# Altium footprint library Smirnov.PcbLib: 63 footprints (part 4 of 4)
Each footprint in its own frame and in the unit in brackets; x right, y up, seen from the top. Pads: shape width x height; smd on the part's side, far side on the other; paste and mask are expansions set on the pad; w line width, h text height; cw(c..) or ccw(c..) is an arc to the next point about the centre after c.
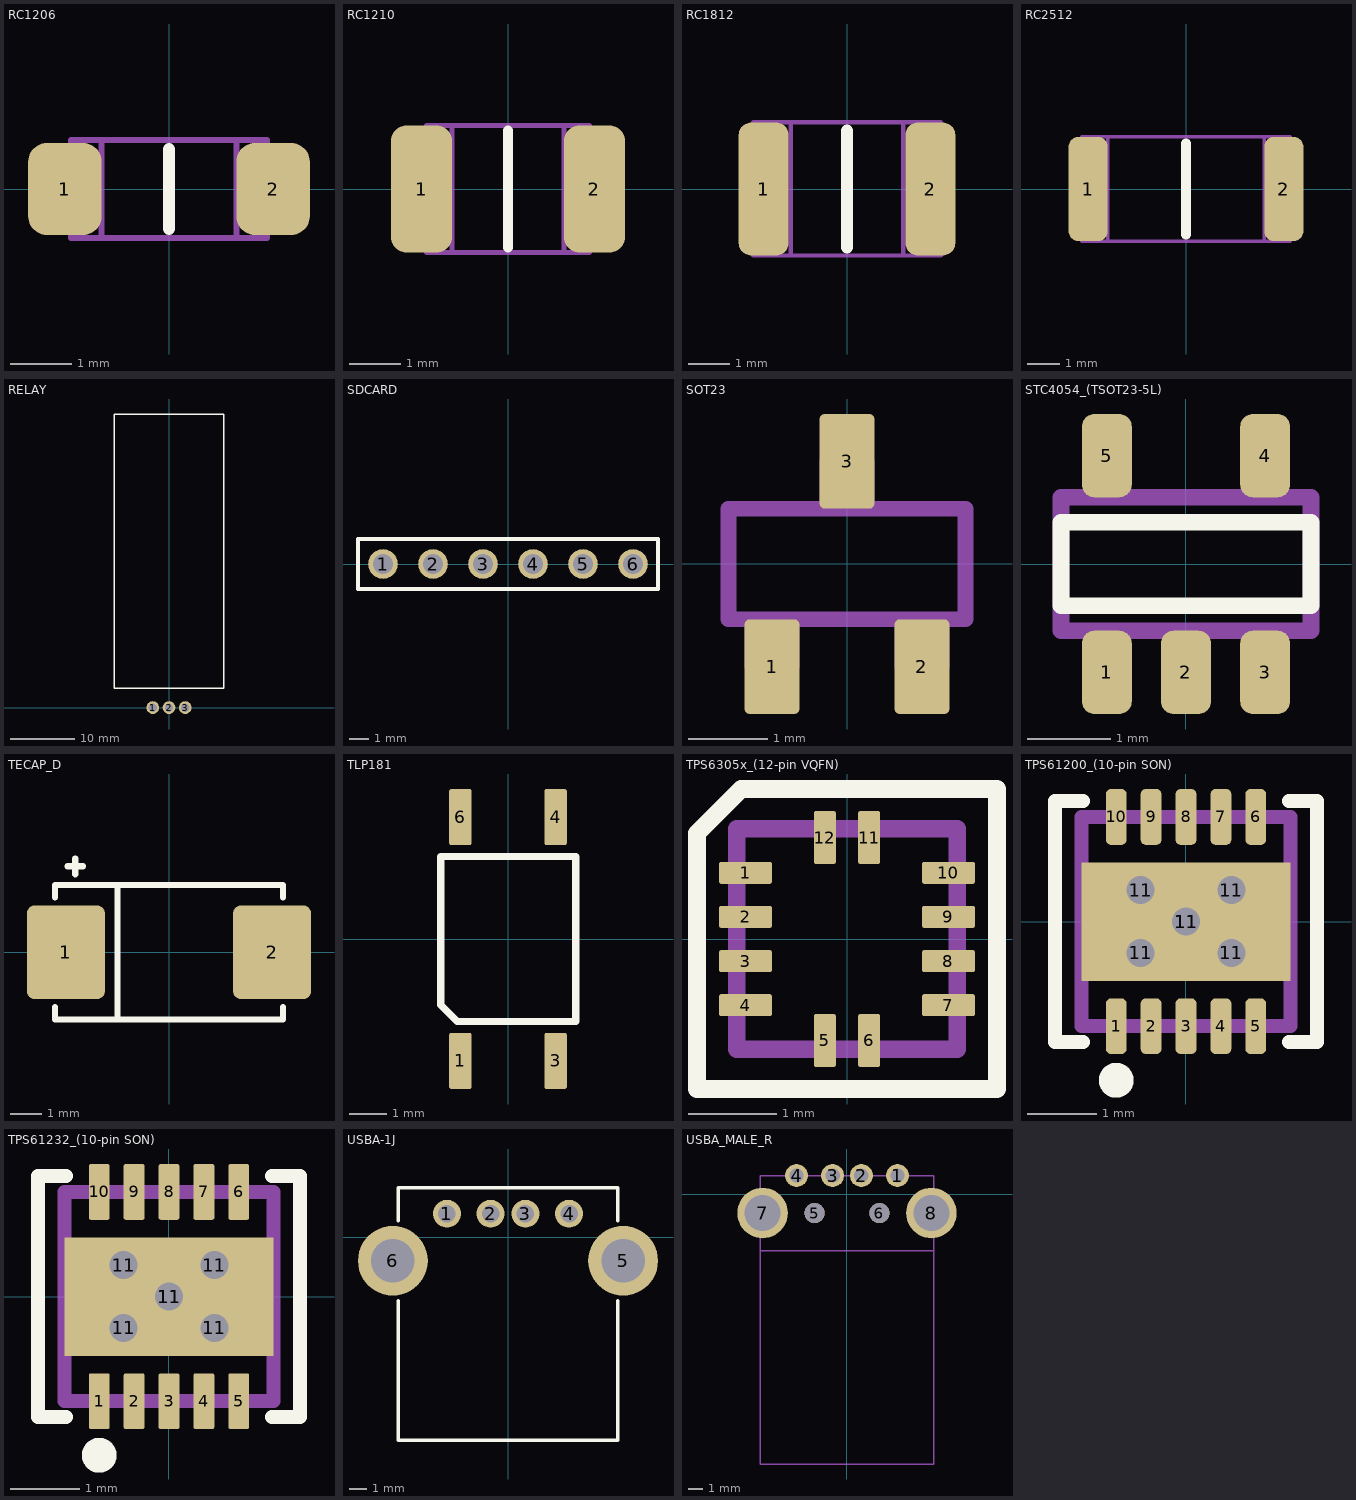
[diagram p3: the footprints below, top view; thin cyan lines are the x and y axes]

## RC1206 [mm]
pads (2):
  rrect50% 1.2x1.5 smd: 1(-1.7,0) 2(1.7,0)
Top Overlay:
  lines w0.2: 0,-0.65 0,0.65
Mechanical 15:
  lines w0.1: -1.1,-0.8 -1.1,0.8 ; 1.1,-0.8 1.1,0.8 ; -1.6,-0.8 1.6,-0.8 1.6,0.8 -1.6,0.8 -1.6,-0.8

## RC1210 [mm]
pads (2):
  rrect50% 1.2x2.5 smd: 1(-1.7,0) 2(1.7,0)
Top Overlay:
  lines w0.2: 0,-1.15 0,1.15
Mechanical 15:
  lines w0.1: -1.1,-1.25 -1.1,1.25 ; 1.1,-1.25 1.1,1.25 ; -1.6,-1.25 -1.6,1.25 1.6,1.25 1.6,-1.25 -1.6,-1.25

## RC1812 [mm]
pads (2):
  rrect50% 1.2x3.2 smd: 1(-2,0) 2(2,0)
Top Overlay:
  lines w0.3: 0,-1.4 0,1.4
Mechanical 15:
  lines w0.1: -1.35,-1.6 -1.35,1.6 ; 1.35,-1.6 1.35,1.6 ; -2.25,-1.6 -2.25,1.6 2.25,1.6 2.25,-1.6 -2.25,-1.6

## RC2512 [mm]
pads (2):
  rrect50% 1.2x3.2 smd: 1(-3,0) 2(3,0)
Top Overlay:
  lines w0.3: 0,-1.4 0,1.4
Mechanical 15:
  lines w0.1: -2.4,-1.6 -2.4,1.6 ; 2.4,-1.6 2.4,1.6 ; -3.2,-1.6 3.2,-1.6 3.2,1.6 -3.2,1.6 -3.2,-1.6

## RELAY [mm]
pads (3):
  round 2 hole 1.3: 1(-2.54,0) 2(0,0) 3(2.54,0)
Top Overlay:
  lines w0.2: -8.6,3 8.6,3 8.6,46 -8.6,46 -8.6,3
3D body "Рэле 1 канал.stp": height 17.9, standoff 0, extent -8.6,3 8.6,46

## SDCARD [mm]
pads (6):
  round 1.5 hole 1: 1(-6.35,0) 2(-3.81,0) 3(-1.27,0) 4(1.27,0) 5(3.81,0) 6(6.35,0)
Top Overlay:
  lines w0.2: -7.62,-1.27 7.62,-1.27 7.62,1.27 -7.62,1.27 -7.62,-1.27
3D body "022284061.stp": height 10.41, standoff -3.05, extent -7.62,-1.244 7.62,1.245

## SOT23 [mm]
pads (3):
  rrect20% 0.7x1.2 smd: 1(-0.95,-1.3) 2(0.95,-1.3) 3(0,1.3)
Mechanical 13:
  lines w0.2: -1.2,-0.7 -1.2,-1.3 -0.7,-1.3 -0.7,-0.7 ; -0.25,0.7 -0.25,1.3 0.25,1.3 0.25,0.7 ; 0.7,-0.7 0.7,-1.3 1.2,-1.3 1.2,-0.7 ; -1.5,-0.7 1.5,-0.7 1.5,0.7 -1.5,0.7 -1.5,-0.7

## STC4054_(TSOT23-5L) [mm] "TSOT23-5L, 3.0x1.6mm"
height 1.1
pads (5):
  rrect50% 0.6x1 smd mask+0.05: 1(-0.95,-1.3) 2(0,-1.3) 3(0.95,-1.3) 4(0.95,1.3) 5(-0.95,1.3)
Top Overlay:
  lines w0.2: -1.5,-0.5 -1.5,0.5 1.5,0.5 1.5,-0.5 -1.5,-0.5
Mechanical 13:
  lines w0.2: -1.5,-0.8 1.5,-0.8 1.5,0.8 -1.5,0.8 -1.5,-0.8
3D body: height 1.1, standoff 0, extent -1.5,-0.8 1.5,0.8

## TECAP_D [mm]
pads (2):
  rrect20% 2.5x3 smd: 1(-3.3,0) 2(3.3,0)
Top Overlay:
  lines w0.2: -3.65,-1.75 -3.65,-2.15 3.65,-2.15 3.65,-1.75 ; -3.65,1.75 -3.65,2.15 3.65,2.15 3.65,1.75 ; -3.25,2.75 -2.75,2.75 ; -3,2.5 -3,3 ; -1.65,-2.15 -1.65,2.15

## TLP181 [mm]
height 1.1
pads (4):
  rrect20% 0.6x1.5 smd mask+0.05: 1(-1.27,-3.25) 3(1.27,-3.25) 4(1.27,3.25) 6(-1.27,3.25)
Top Overlay:
  lines w0.2: -1.8,-1.75 -1.8,2.2 1.8,2.2 1.8,-2.2 -1.35,-2.2 -1.8,-1.75

## TPS6305x_(12-pin VQFN) [mm]
height 1
pads (12):
  rrect20% 0.6x0.25 smd mask+0.05: 1(-1.15,0.75) 2(-1.15,0.25) 3(-1.15,-0.25) 4(-1.15,-0.75) 7(1.15,-0.75) 8(1.15,-0.25) 9(1.15,0.25) 10(1.15,0.75)
  rrect20% 0.25x0.6 smd mask+0.05: 5(-0.25,-1.15) 6(0.25,-1.15) 11(0.25,1.15) 12(-0.25,1.15)
Top Overlay:
  lines w0.2: -1.7,-1.7 1.7,-1.7 1.7,1.7 -1.2,1.7 -1.7,1.2 -1.7,-1.7
Mechanical 13:
  lines w0.2: -1.25,-1.25 -1.25,1.25 1.25,1.25 1.25,-1.25 -1.25,-1.25
3D body: height 1, standoff 0, extent -1.25,-1.25 1.25,1.25

## TPS61200_(10-pin SON) [mm] "10-pin SON, 3.0x3.0mm"
height 1
pads (16):
  rrect50% 0.3x0.8 smd mask+0.05: 1(-1,-1.5) 2(-0.5,-1.5) 3(0,-1.5) 4(0.5,-1.5) 5(1,-1.5) 6(1,1.5) 7(0.5,1.5) 8(0,1.5) 9(-0.5,1.5) 10(-1,1.5)
  round 0.8 hole 0.4 mask+0.05: 11(-0.65,-0.45) 11(-0.65,0.45) 11(0,0) 11(0.65,-0.45) 11(0.65,0.45)
  rect 3x1.7 smd mask+0.05: 11(0,0)
Top Overlay:
  circle w0.25: c-1,-2.275 r0.125
  lines w0.2: -1.475,-1.725 -1.875,-1.725 -1.875,1.725 -1.475,1.725 ; 1.475,-1.725 1.875,-1.725 1.875,1.725 1.475,1.725
Mechanical 13:
  lines w0.2: -1.5,-1.5 1.5,-1.5 1.5,1.5 -1.5,1.5 -1.5,-1.5
3D body: height 0.8, standoff 0, extent -1.5,-1.5 1.5,1.5

## TPS61232_(10-pin SON) [mm] "10-pin SON, 3.0x3.0mm"
height 1
pads (16):
  rrect20% 0.3x0.8 smd mask+0.05: 1(-1,-1.5) 2(-0.5,-1.5) 3(0,-1.5) 4(0.5,-1.5) 5(1,-1.5) 6(1,1.5) 7(0.5,1.5) 8(0,1.5) 9(-0.5,1.5) 10(-1,1.5)
  round 0.8 hole 0.4 mask+0.05: 11(-0.65,-0.45) 11(-0.65,0.45) 11(0,0) 11(0.65,-0.45) 11(0.65,0.45)
  rect 3x1.7 smd mask+0.05: 11(0,0)
Top Overlay:
  circle w0.25: c-1,-2.275 r0.125
  lines w0.2: -1.475,-1.725 -1.875,-1.725 -1.875,1.725 -1.475,1.725 ; 1.475,-1.725 1.875,-1.725 1.875,1.725 1.475,1.725
Mechanical 13:
  lines w0.2: -1.5,-1.5 -1.5,1.5 1.5,1.5 1.5,-1.5 -1.5,-1.5
3D body: height 0.8, standoff 0, extent -1.5,-1.5 1.5,1.5

## USBA-1J [mm]
pads (6):
  round 1.6 hole 1: 1(-3.5,1.35) 2(-1,1.35) 3(1,1.35) 4(3.5,1.35)
  round 4 hole 2.5: 5(6.6,-1.35) 6(-6.6,-1.35)
Top Overlay:
  lines w0.2: -6.3,-3.65 -6.3,-11.65 6.3,-11.65 6.3,-3.65 ; -6.3,0.95 -6.3,2.85 6.3,2.85 6.3,0.95
3D body "c-292303-1-e3-3d.stp": height 7.42, standoff -3.84, extent -8.117,-11.65 8.115,2.35

## USBA_MALE_R [mm]
pads (8):
  round 1.6 hole 1: 1(3.5,1.3) 2(1,1.3) 3(-1,1.3) 4(-3.5,1.3)
  round 1.4 hole 1.4 unplated: 5(-2.25,-1.3) 6(2.25,-1.3)
  round 3.5 hole 2.5: 7(-5.85,-1.3) 8(5.85,-1.3)
Mechanical 13:
  lines w0.1: -6,-3.9 6,-3.9 ; -6,-18.7 6,-18.7 6,1.3 0,1.3 -6,1.3 -6,-18.7
  text "D-" at 0.5,2.3 h0.63
  text "VCC" at 3,2.3 h0.63
  text "GND" at -4.5,2.3 h0.63
  text "D+" at -1.5,2.3 h0.63
3D body "c-1734028-1-c-3d.stp": height 3.15, standoff -2.65, extent -6.45,-18.95 6.45,1.9